# Altium footprint library TDFN-8_6x5.PcbLib: 1 footprints
Each footprint in its own frame and in the unit in brackets; x right, y up, seen from the top. Pads: shape width x height; smd on the part's side, far side on the other; paste and mask are expansions set on the pad; w line width, h text height; cw(c..) or ccw(c..) is an arc to the next point about the centre after c.
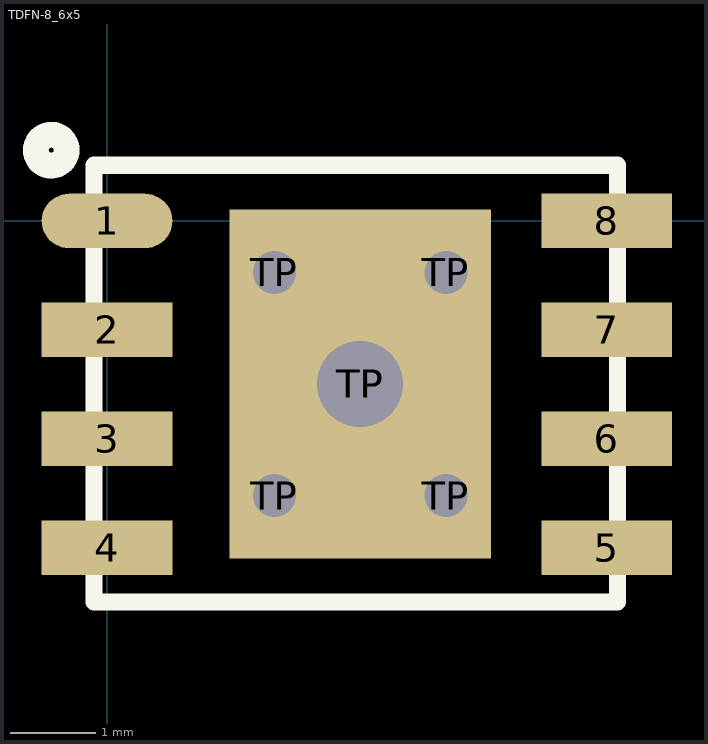
[diagram p0: the footprint, top view; thin cyan lines are the x and y axes]

## TDFN-8_6x5 [mm] "TDFN 8-pin 6x5mm"
pads (14):
  oval 1.524x0.635 smd: 1(0,0)
  rect 1.524x0.635 smd: 2(0,-1.27) 3(0,-2.54) 4(0,-3.81) 5(5.825,-3.81) 6(5.825,-2.54) 7(5.825,-1.27) 8(5.825,0)
  round 0.8 hole 0.5: TP(1.95,-3.2) TP(1.95,-0.6) TP(3.95,-3.2) TP(3.95,-0.6)
  rect 3.048x4.064 smd: TP(2.95,-1.9)
  round 1.5 hole 1: TP(2.95,-1.9)
Top Overlay:
  circle w0.3: c-0.65,0.825 r0.18
  lines w0.2: -0.15,-4.44 5.95,-4.44 5.95,0.65 -0.15,0.65 -0.15,-4.44
3D body "TDFN-8_6x5.step": height 0.79, standoff -0.01, extent -0.075,-4.4 5.925,0.6